# EAGLE library part B11P-VH (library con-jst)
VH Connector - 0.156"
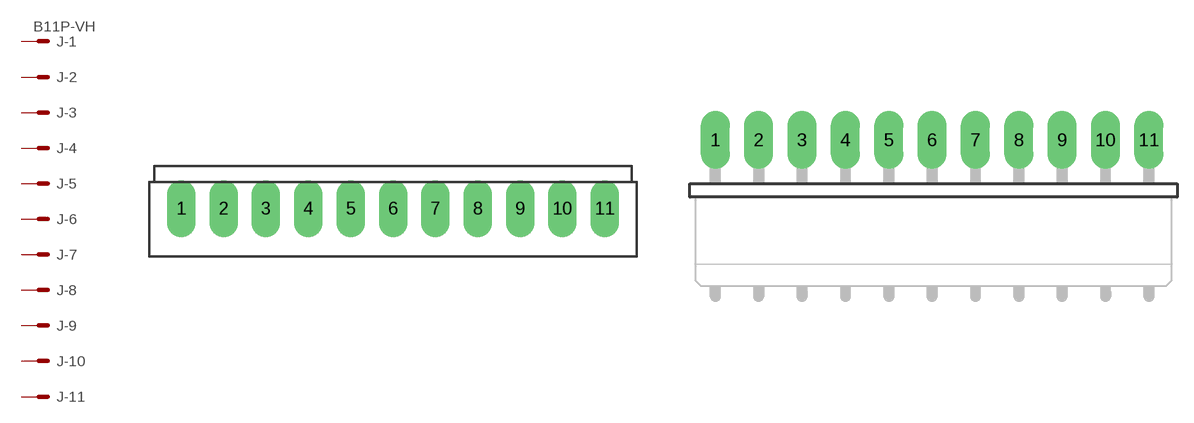
[diagram p46: symbol with the pads of B11P; footprints B11P, B11PS]

Designator prefix J; gates -1=KV -2=K -3=K -4=K -5=K -6=K -7=K -8=K -9=K -10=K -11=K

## B11P-VH  [B11P]
1  -1:S  pas
2  -2:S  pas
3  -3:S  pas
4  -4:S  pas
5  -5:S  pas
6  -6:S  pas
7  -7:S  pas
8  -8:S  pas
9  -9:S  pas
10  -10:S  pas
11  -11:S  pas

## B11P-VHS  [B11PS]
Pads as for B11P

## Footprint B11P (pad centres in mm)
VH Series - 0.156" Pitch
drill 1.778 long: 1 -19.812,0; 2 -15.85,0; 3 -11.887,0; 4 -7.925,0; 5 -3.962,0; 6 0,0; 7 3.962,0; 8 7.925,0; 9 11.887,0; 10 15.85,0; 11 19.812,0

## Footprint B11PS (pad centres in mm)
VH Series - 0.156" Pitch - right angle
drill 1.778 long: 1 -19.812,0; 2 -15.85,0; 3 -11.887,0; 4 -7.925,0; 5 -3.962,0; 6 0,0; 7 3.962,0; 8 7.925,0; 9 11.887,0; 10 15.85,0; 11 19.812,0